# EAGLE library part WT11I (library Bluegiga_Bluetooth)
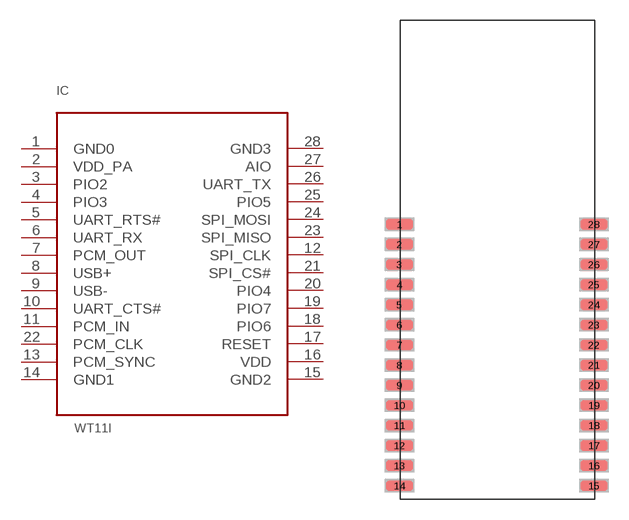
[diagram p1: symbol with the pads of WT11I; footprint WT11I]

Designator prefix IC

## WT11I  [WT11I]
1  GND0  pwr
2  VDD_PA
3  PIO2
4  PIO3
5  UART_RTS#
6  UART_RX
7  PCM_OUT
8  USB+
9  USB-
10  UART_CTS#
11  PCM_IN
12  SPI_CLK
13  PCM_SYNC
14  GND1  pwr
15  GND2  pwr
16  VDD
17  RESET
18  PIO6
19  PIO7
20  PIO4
21  SPI_CS#
22  PCM_CLK
23  SPI_MISO
24  SPI_MOSI
25  PIO5
26  UART_TX
27  AIO
28  GND3  pwr

## Footprint WT11I (pad centres in mm)
smd 2 x 0.8: 1 -7.8,2.7; 2 -7.8,1.2; 3 -7.8,-0.3; 4 -7.8,-1.8; 5 -7.8,-3.3; 6 -7.8,-4.8; 7 -7.8,-6.3; 8 -7.8,-7.8; 9 -7.8,-9.3; 10 -7.8,-10.8; 11 -7.8,-12.3; 12 -7.8,-13.8; 13 -7.8,-15.3; 14 -7.8,-16.8; 15 6.7,-16.8; 16 6.7,-15.3; 17 6.7,-13.8; 18 6.7,-12.3; 19 6.7,-10.8; 20 6.7,-9.3; 21 6.7,-7.8; 22 6.7,-6.3; 23 6.7,-4.8; 24 6.7,-3.3; 25 6.7,-1.8; 26 6.7,-0.3; 27 6.7,1.2; 28 6.7,2.7